# EAGLE library part HEADER_02X03 (library MF_Connectors)
Library: MF_Connectors Description: Header Connector with 6 Positions and 02 Rows. Use the LABEL Attribute to label the pin on the schematic and PCB. You can remove the attributes on the PCB by using the SMASH function on the part and then deleting the text.
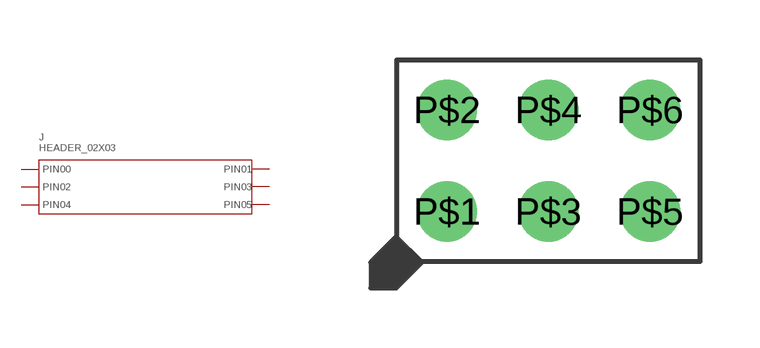
[diagram p36: symbol with the pads of PTH_2.54MM_02X03; footprint PTH_2.54MM_02X03]

Designator prefix J

## HEADER_02X03_PTH_2.54MM  [PTH_2.54MM_02X03]
P$1  PIN0
P$2  PIN1
P$3  PIN2
P$4  PIN3
P$5  PIN4
P$6  PIN5

## Footprint PTH_2.54MM_02X03 (pad centres in mm)
Description: Package for 2.54MM Pitch Header 2 Row 6 Position.
drill 1: P$1 -2.54,-1.27; P$2 -2.54,1.27; P$3 0,-1.27; P$4 0,1.27; P$5 2.54,-1.27; P$6 2.54,1.27